# EAGLE library part 53398-0471 (library 53398-0471)
4 way straight SMT header,1.25mm pitch Molex PICOBLADE Series, Series Number 53398, 1.25mm Pitch 4 Way 1 Row Straight PCB Header, Solder Termination, 1A Source: Datasheet <http://www.molex.com/webdocs/datasheets/pdf/en-us/0533980471_PCB_HEADERS.pdf>
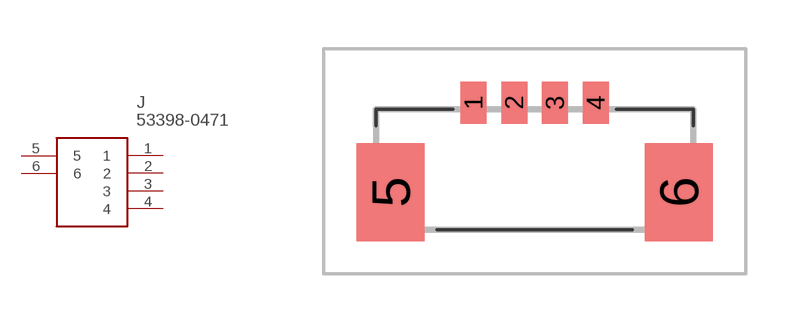
[diagram p0: symbol with the pads of 533980471; footprint 533980471]

Designator prefix J

## 53398-0471 (Description: 4 way straight SMT header,1.25mm pitch Molex PICOBLADE Series, Series Number 53398, 1.25mm Pitch 4 Way 1 Row Straight PCB Header, Solder Termination, 1A; Height: 4mm; Manufacturer_Name: Molex; Manufacturer_Part_Number: 53398-0471; Mouser_Part_Number: 538-53398-0471; Mouser_Price-Stock: https://www.mouser.co.uk/ProductDetail/Molex/53398-0471?qs=yqtfsgZKt1SrARkpB7YBSw%3D%3D)  [533980471]
1  1
2  2
3  3
4  4
5  5
6  6

## Footprint 533980471 (pad centres in mm)
53398-0471_1
smd 0.8 x 1.3: 1 -1.875,0.2; 2 -0.625,0.2; 3 0.625,0.2; 4 1.875,0.2
smd 2.1 x 3: 5 -4.425,-2.55; 6 4.425,-2.55